# Altium footprint library 68602-116HLF.PcbLib: 1 footprints
Each footprint in its own frame and in the unit in brackets; x right, y up, seen from the top. Pads: shape width x height; smd on the part's side, far side on the other; paste and mask are expansions set on the pad; w line width, h text height; cw(c..) or ccw(c..) is an arc to the next point about the centre after c.
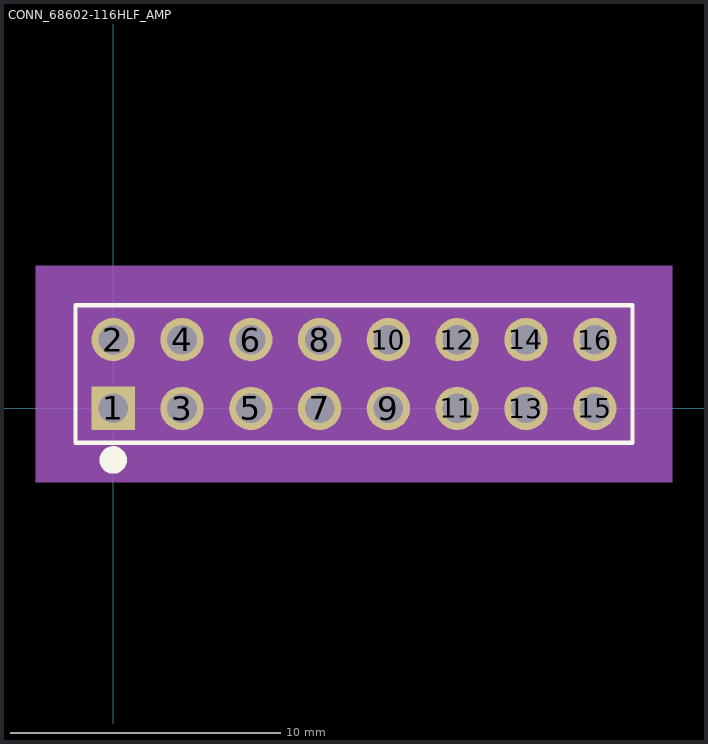
[diagram p0: the footprint, top view; thin cyan lines are the x and y axes]

## CONN_68602-116HLF_AMP [mil]
pads (16):
  rect 63x63 hole 43 mask+0: 1(0,0)
  round 63 hole 43 mask+0: 2(0,100) 3(100,0) 4(100,100) 5(200,0) 6(200,100) 7(300,0) 8(300,100) 9(400,0) 10(400,100) 11(500,0) 12(500,100) 13(600,0) 14(600,100) 15(700,0) 16(700,100)
Top Overlay:
  circle w20: c0,-75 r10
  lines w6: -55,-50 755,-50 755,150 -55,150 -55,-50
Mechanical 5:
  region: 812.5,-107.5 -112.5,-107.5 -112.5,207.5 812.5,207.5
Mechanical 13:
  circle w0: c0,-30 r10
  lines w1: -50,-45 750,-45 750,145 -50,145 -50,-45
Mechanical 15:
  region: 760,155 -60,155 -60,-55 760,-55
  lines w6: -60,-55 -60,155 760,155 760,-55 -60,-55
3D body "CONN_68602-116HLF_AMP.step": height 385, standoff -200, extent -50,-150 750,50